# Altium footprint library LQFP-128_14x14x04P.PcbLib: 1 footprints
Each footprint in its own frame and in the unit in brackets; x right, y up, seen from the top. Pads: shape width x height; smd on the part's side, far side on the other; paste and mask are expansions set on the pad; w line width, h text height; cw(c..) or ccw(c..) is an arc to the next point about the centre after c.
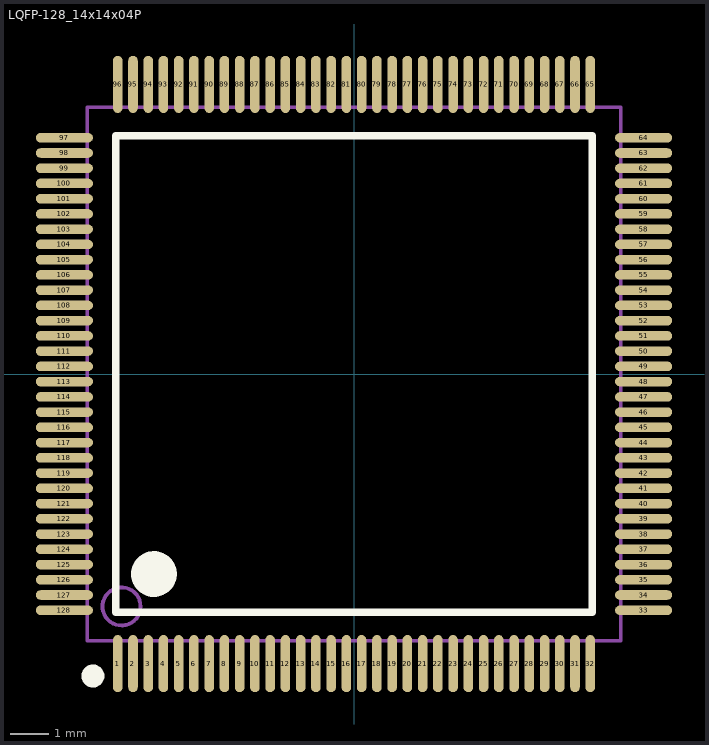
[diagram p0: the footprint, top view; thin cyan lines are the x and y axes]

## LQFP-128_14x14x04P [mm]
pads (128):
  oval 0.25x1.5 smd mask+0.051: 1(-6.2,-7.6) 2(-5.8,-7.6) 3(-5.4,-7.6) 4(-5,-7.6) 5(-4.6,-7.6) 6(-4.2,-7.6) 7(-3.8,-7.6) 8(-3.4,-7.6) 9(-3,-7.6) 10(-2.6,-7.6) 11(-2.2,-7.6) 12(-1.8,-7.6) 13(-1.4,-7.6) 14(-1,-7.6) 15(-0.6,-7.6) 16(-0.2,-7.6) 17(0.2,-7.6) 18(0.6,-7.6) 19(1,-7.6) 20(1.4,-7.6) 21(1.8,-7.6) 22(2.2,-7.6) 23(2.6,-7.6) 24(3,-7.6) 25(3.4,-7.6) 26(3.8,-7.6) 27(4.2,-7.6) 28(4.6,-7.6) 29(5,-7.6) 30(5.4,-7.6) 31(5.8,-7.6) 32(6.2,-7.6) 65(6.2,7.6) 66(5.8,7.6) 67(5.4,7.6) 68(5,7.6) 69(4.6,7.6) 70(4.2,7.6) 71(3.8,7.6) 72(3.4,7.6) 73(3,7.6) 74(2.6,7.6) 75(2.2,7.6) 76(1.8,7.6) 77(1.4,7.6) 78(1,7.6) 79(0.6,7.6) 80(0.2,7.6) 81(-0.2,7.6) 82(-0.6,7.6) 83(-1,7.6) 84(-1.4,7.6) 85(-1.8,7.6) 86(-2.2,7.6) 87(-2.6,7.6) 88(-3,7.6) 89(-3.4,7.6) 90(-3.8,7.6) 91(-4.2,7.6) 92(-4.6,7.6) 93(-5,7.6) 94(-5.4,7.6) 95(-5.8,7.6) 96(-6.2,7.6)
  oval 1.5x0.25 smd mask+0.051: 33(7.6,-6.2) 34(7.6,-5.8) 35(7.6,-5.4) 36(7.6,-5) 37(7.6,-4.6) 38(7.6,-4.2) 39(7.6,-3.8) 40(7.6,-3.4) 41(7.6,-3) 42(7.6,-2.6) 43(7.6,-2.2) 44(7.6,-1.8) 45(7.6,-1.4) 46(7.6,-1) 47(7.6,-0.6) 48(7.6,-0.2) 49(7.6,0.2) 50(7.6,0.6) 51(7.6,1) 52(7.6,1.4) 53(7.6,1.8) 54(7.6,2.2) 55(7.6,2.6) 56(7.6,3) 57(7.6,3.4) 58(7.6,3.8) 59(7.6,4.2) 60(7.6,4.6) 61(7.6,5) 62(7.6,5.4) 63(7.6,5.8) 64(7.6,6.2) 97(-7.6,6.2) 98(-7.6,5.8) 99(-7.6,5.4) 100(-7.6,5) 101(-7.6,4.6) 102(-7.6,4.2) 103(-7.6,3.8) 104(-7.6,3.4) 105(-7.6,3) 106(-7.6,2.6) 107(-7.6,2.2) 108(-7.6,1.8) 109(-7.6,1.4) 110(-7.6,1) 111(-7.6,0.6) 112(-7.6,0.2) 113(-7.6,-0.2) 114(-7.6,-0.6) 115(-7.6,-1) 116(-7.6,-1.4) 117(-7.6,-1.8) 118(-7.6,-2.2) 119(-7.6,-2.6) 120(-7.6,-3) 121(-7.6,-3.4) 122(-7.6,-3.8) 123(-7.6,-4.2) 124(-7.6,-4.6) 125(-7.6,-5) 126(-7.6,-5.4) 127(-7.6,-5.8) 128(-7.6,-6.2)
Top Overlay:
  circle w0.6: c-5.25,-5.25 r0.3
  circle w0.3: c-6.85,-7.925 r0.15
  lines w0.2: -6.25,-6.25 6.25,-6.25 6.25,6.25 -6.25,6.25 -6.25,-6.25
Mechanical 13:
  circle w0.1: c-6.1,-6.1 r0.5
  lines w0.1: -7,-7 -7,7 7,7 7,-7 -7,-7